# EAGLE library part M08X2 (library work)
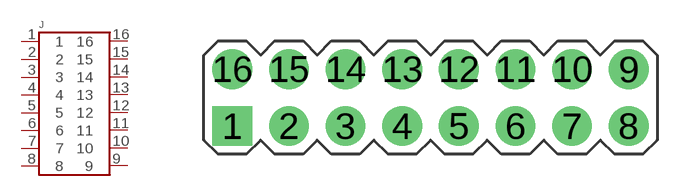
[diagram p25: symbol with the pads of M08X2; footprint M08X2]

Designator prefix J

## M08X2  [M08X2]
1  1
2  2
3  3
4  4
5  5
6  6
7  7
8  8
9  9
10  10
11  11
12  12
13  13
14  14
15  15
16  16

## Footprint M08X2 (pad centres in mm)
drill 1.016 pad 1.778 square: 1 -8.89,-1.27
drill 1.016 pad 1.778: 2 -6.35,-1.27; 3 -3.81,-1.27; 4 -1.27,-1.27; 5 1.27,-1.27; 6 3.81,-1.27; 7 6.35,-1.27; 8 8.89,-1.27; 9 8.89,1.27; 10 6.35,1.27; 11 3.81,1.27; 12 1.27,1.27; 13 -1.27,1.27; 14 -3.81,1.27; 15 -6.35,1.27; 16 -8.89,1.27